# Altium schematic symbol library MCP2561.SchLib: 1 symbol
Pins are listed as number, name and electrical type; pins without a type are passive.

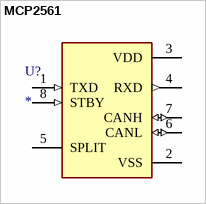
[diagram p0: symbol MCP2561]

## MCP2561
designator U?
Value: *
pins: 1 TXD (in), 2 VSS (power), 3 VDD (power), 4 RXD (out), 5 SPLIT, 6 CANL (io), 7 CANH (io), 8 STBY (in)